# EAGLE library part ESP32_S3 (library ESP32_S3_v1)
BY SEGASONICFAN DESIGNS HTTP://WWW.SEGASONICFAN.WIXSITE.COM/RETRO WEMOS ESP32 BREAKOUT 4MB CHINA WITH BATTERY CONNECTOR https://arduino-projekte.info/wemos-lolin32/ https://diyprojects.io/wemos-lolin32-new-development-board-esp32-e645-4mb-memory-lipo-battery-connector/
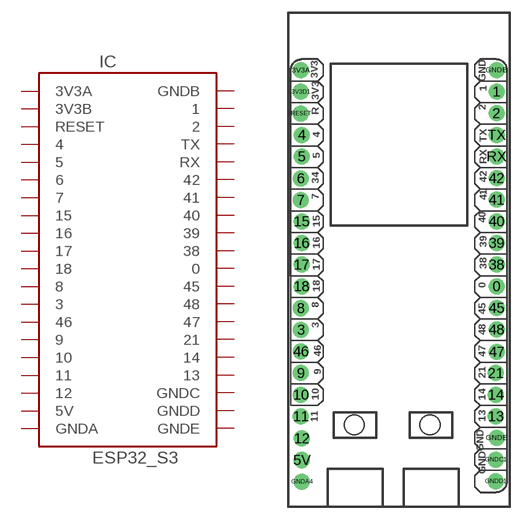
[diagram p0: symbol with the pads of SSFD_LOLIN32_WEMOS_CHINA_W_BATT; footprint SSFD_LOLIN32_WEMOS_CHINA_W_BATT]

Designator prefix IC

## ESP32_S3  [SSFD_LOLIN32_WEMOS_CHINA_W_BATT]
0  0
1  1
2  2
3  3
3V3A  3V3A
3V3D1  3V3B
4  4
5  5
5V  5V
6  6
7  7
8  8
9  9
10  10
11  11
12  12
13  13
14  14
15  15
16  16
17  17
18  18
21  21
38  38
39  39
40  40
41  41
42  42
45  45
46  46
47  47
48  48
GNDA4  GNDA
GNDB  GNDB
GNDC1  GNDC
GNDD1  GNDD
GNDE  GNDE
RESET  RESET
RX  RX
TX  TX

## Footprint SSFD_LOLIN32_WEMOS_CHINA_W_BATT (pad centres in mm)
drill 1.016 pad 1.88: 0 11.43,-7.62; 1 11.43,15.24; 2 11.43,12.7; 3 -11.51,-12.73; 3V3A -11.51,17.75; 3V3D1 -11.51,15.21; 4 -11.43,10.16; 5 -11.43,7.62; 5V -11.4,-28.02; 6 -11.51,5.05; 7 -11.51,2.51; 8 -11.51,-10.19; 9 -11.51,-17.81; 10 -11.51,-20.35; 11 -11.51,-22.89; 12 -11.4,-25.48; 13 11.35,-22.89; 14 11.35,-20.35; 15 -11.43,0; 16 -11.43,-2.54; 17 -11.43,-5.08; 18 -11.43,-7.62; 21 11.35,-17.81; 38 11.43,-5.08; 39 11.43,-2.54; 40 11.43,0; 41 11.43,2.54; 42 11.43,5.08; 45 11.43,-10.16; 46 -11.51,-15.27; 47 11.46,-15.32; 48 11.43,-12.7; GNDA4 -11.4,-30.56; GNDB 11.43,17.78; GNDC1 11.35,-27.97; GNDD1 11.35,-30.51; GNDE 11.43,-25.4; RESET -11.51,12.67; RX 11.43,7.62; TX 11.43,10.16